# Altium schematic symbol library Schlib1.SchLib: 41 symbols (part 1 of 2)
Pins are listed as number, name and electrical type; pins without a type are passive.

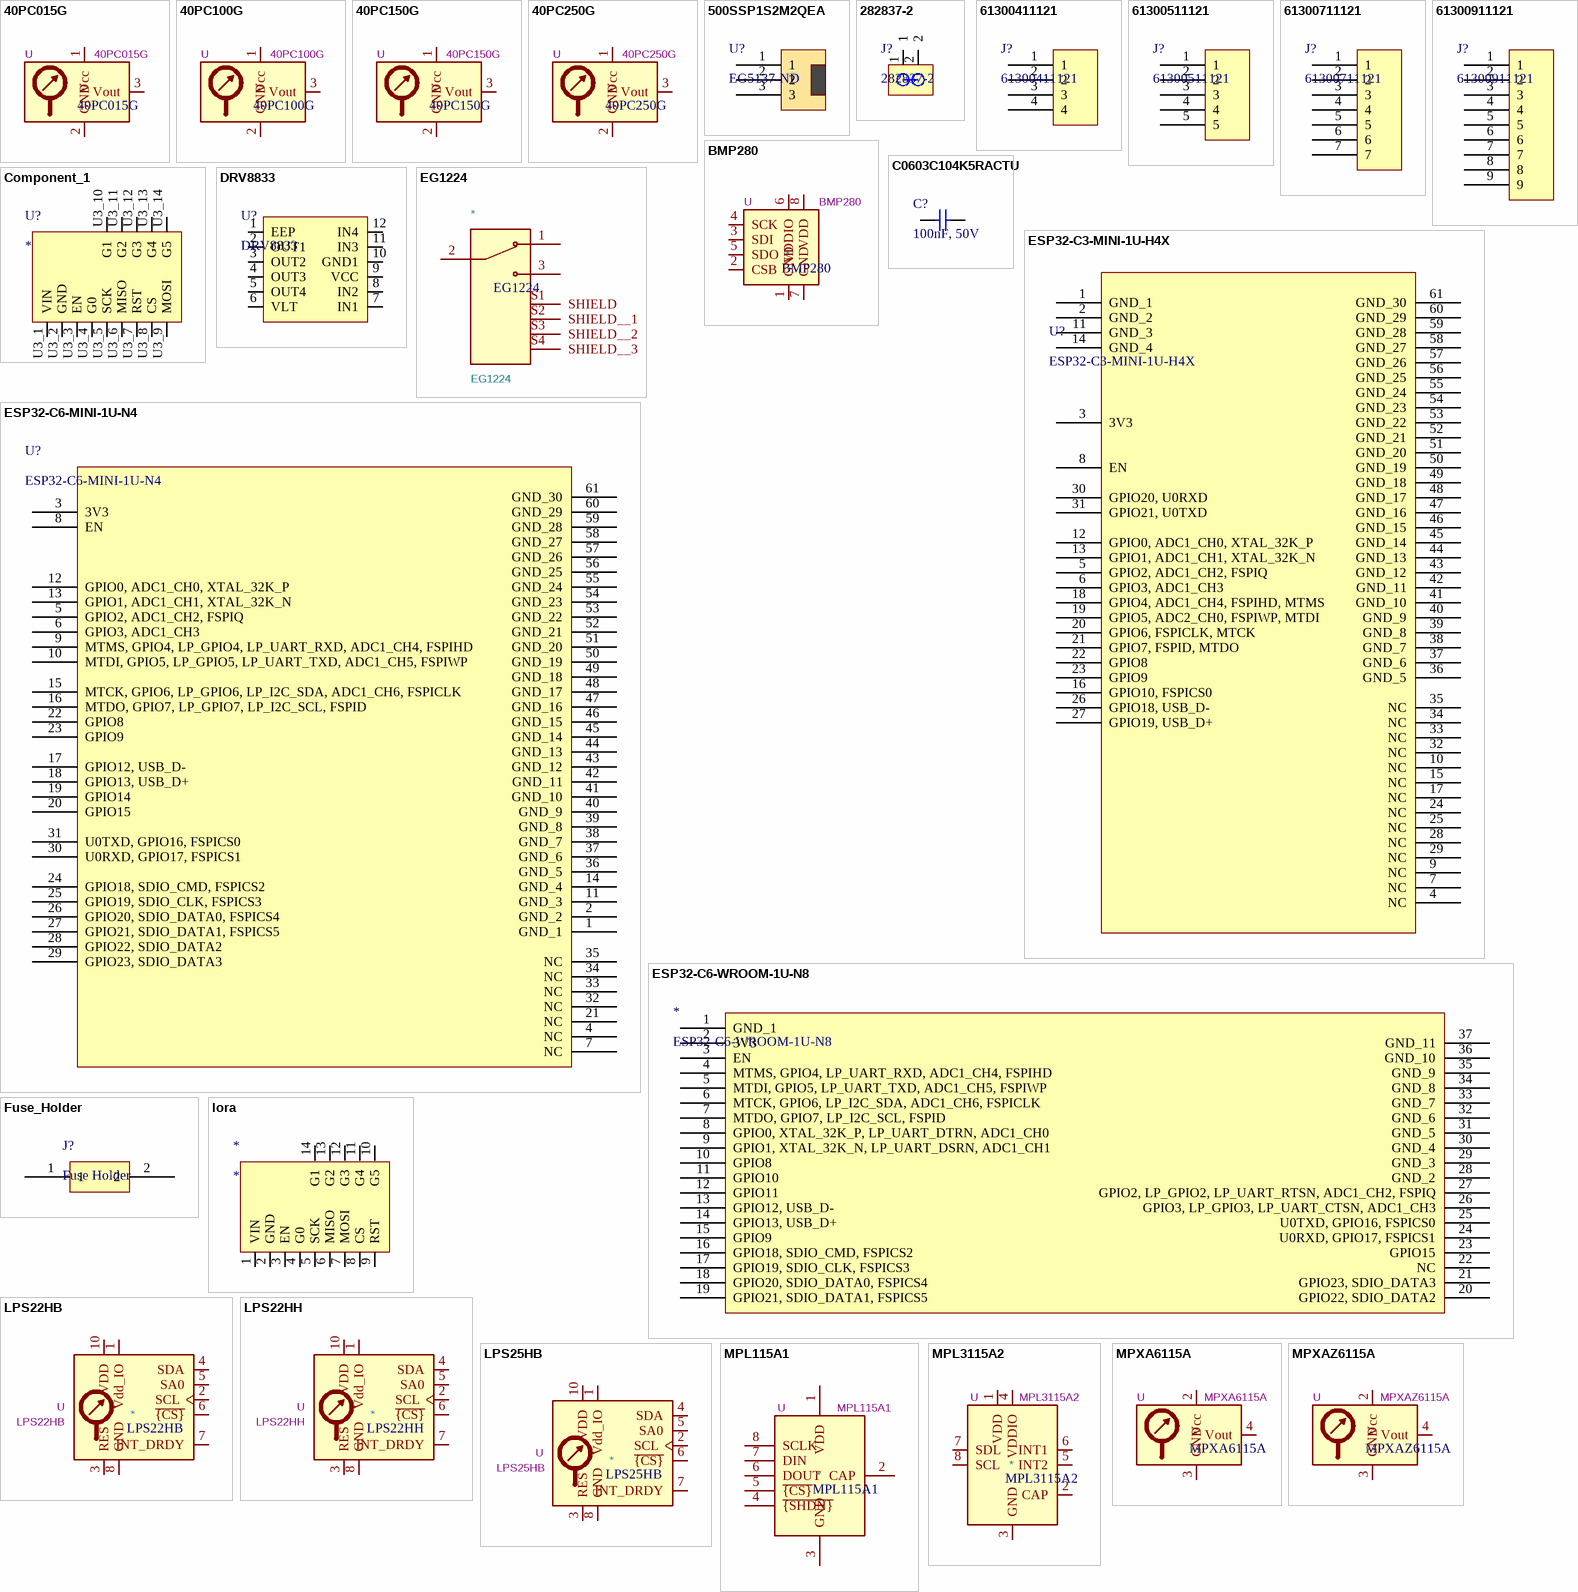
[diagram p0: symbols 40PC015G to MPXAZ6115A]

## 40PC015G
designator *  Reference: U
Gauge pressure sensor, 0 to 15PSI, 5V supply, 0.2% accuracy, integrated signal conditioning, excellent media compatibility; ki_keywords: gage gauge pressure sensor; Datasheet: http://www.honeywellscportal.com//index.php?ci_id=138832; Description_: Gauge pressure sensor, 0 to 15PSI, 5V supply, 0.2% accuracy, integrated signal conditioning, excellent media compatibility; Value: 40PC015G
pins: 1 Vcc, 2 GND, 3 Vout, 4 NC hidden, 5 NC hidden, 6 NC hidden

## 40PC100G
designator *  Reference: U
Gauge pressure sensor, 0 to 100PSI, 5V supply, 0.2% accuracy, integrated signal conditioning, excellent media compatibility; ki_keywords: gage gauge pressure sensor; Datasheet: http://www.honeywellscportal.com//index.php?ci_id=138832; Description_: Gauge pressure sensor, 0 to 100PSI, 5V supply, 0.2% accuracy, integrated signal conditioning, excellent media compatibility; Value: 40PC100G
pins: 1 Vcc, 2 GND, 3 Vout, 4 NC hidden, 5 NC hidden, 6 NC hidden

## 40PC150G
designator *  Reference: U
Gauge pressure sensor, 0 to 150PSI, 5V supply, 0.2% accuracy, integrated signal conditioning, excellent media compatibility; ki_keywords: gage gauge pressure sensor; Datasheet: http://www.honeywellscportal.com//index.php?ci_id=138832; Description_: Gauge pressure sensor, 0 to 150PSI, 5V supply, 0.2% accuracy, integrated signal conditioning, excellent media compatibility; Value: 40PC150G
pins: 1 Vcc, 2 GND, 3 Vout, 4 NC hidden, 5 NC hidden, 6 NC hidden

## 40PC250G
designator *  Reference: U
Gauge pressure sensor, 0 to 250PSI, 5V supply, 0.2% accuracy, integrated signal conditioning, excellent media compatibility; ki_keywords: gage gauge pressure sensor; Datasheet: http://www.honeywellscportal.com//index.php?ci_id=138832; Description_: Gauge pressure sensor, 0 to 250PSI, 5V supply, 0.2% accuracy, integrated signal conditioning, excellent media compatibility; Value: 40PC250G
pins: 1 Vcc, 2 GND, 3 Vout, 4 NC hidden, 5 NC hidden, 6 NC hidden

## 500SSP1S2M2QEA
designator U?, comment EG5137-ND
Switch Slide ON None ON SPDT Extended Top Slide 5A 250VAC 28VDC PC Pins Thru-Hole; Manufacturer: E-Switch; Manufacturer Part Number: 500SSP1S2M2QEA; Actuator Length: 7.239mm; Actuator Material: Nylon; Contact Current Rating: 2A; Contact Resistance: 10mΩ; Contact Voltage Rating (AC): 250V; Electrical Life: 30kcycles; Insulation Resistance: 1GΩ; Max Voltage Rating (DC): 28V; Number of Positions: 1; Sealable: EPOXY; Switch Function: On-On; Switch Travel: 2.16mm; Voltage Rating (AC): 120V; Supplier: DigiKey; Supplier Part Number: EG5137-ND; RoHS: Compliant; Category: Slide Switches; Stock: 7980; Pricing: 1=3.29, 10=2.758, 25=2.556, 126=2.23468, 252=2.11369, 504=2.00373, 1008=1.90486, 2520=1.79075, 5040=1.71628 (USD); Contact Material: Copper; Contact Plating: Silver; Current Rating: 5A; Export Control Classification Number (ECCN) Code: EAR99; Housing Material: Stainless Steel; Harmonized Tariff Schedule (HTS) Code: 8536.50.70.00; Introduction Date: 2000-02-16; Length: 12.8524mm; Lifecycle Status: Production; Max Current Rating: 5A; Max Operating Temperature: 85°C; Mechanical Life: 30kcycles; Min Operating Temperature: -30°C; Mounting Technology: Through Hole; Orientation: Vertical; REACH SVHC: Yes; Termination: PC Pin; Throw Configuration: SPDT; Voltage Rating (DC): 28V; ComponentLink1URL: https://datasheet.octopart.com:443/500SSP1S2M2QEA-E-Switch-datasheet-41192586.pdf?src-supplier=element14+APAC; ComponentLink1Description: https://datasheet.octopart.com:443/500SSP1S2M2QEA-E-Switch-datasheet-41192586.pdf?src-supplier=element14+APAC; ComponentLink2URL: https://datasheet.octopart.com:443/500SSP1S2M2QEA-E-Switch-datasheet-156105959.pdf?src-supplier=Future+Electronics; ComponentLink2Description: https://datasheet.octopart.com:443/500SSP1S2M2QEA-E-Switch-datasheet-156105959.pdf?src-supplier=Future+Electronics; ComponentLink3URL: https://datasheet.octopart.com:443/500SSP1S2M2QEA-E-Switch-datasheet-169364037.pdf?src-supplier=New+Yorker+Electronics; ComponentLink3Description: https://datasheet.octopart.com:443/500SSP1S2M2QEA-E-Switch-datasheet-169364037.pdf?src-supplier=New+Yorker+Electronics; ComponentLink4URL: https://datasheet.octopart.com:443/500SSP1S2M2QEA-E-Switch-datasheet-33408909.pdf?src-supplier=Electro+Sonic; ComponentLink4Description: https://datasheet.octopart.com:443/500SSP1S2M2QEA-E-Switch-datasheet-33408909.pdf?src-supplier=Electro+Sonic
pins: 1, 2, 3

## 282837-2
designator J?
Connector, Terminal Block; Wire Receptacle; 2 Pos.; 16-30 AWG; 0.2 in. CL; Side;; Manufacturer: TE Connectivity; Manufacturer Lifecycle Status: ACTIVE; Approvals: UL; Connector System: Wire-to-Board; Current: 13.5A; Gender: Female; Max Supply Voltage (AC): 250V; Number of Circuits: 2; Number of Levels: 1; Operating Supply Voltage: 300V; Pitch: 5.08mm; Plating: Brass; Tail Length: 3.5mm; Thread Size: M3; Wire/Cable Gauge: 15AWG; Wire Gauge (Max): 28AWG; Wire Gauge (Min): 16AWG; Supplier: Avnet; Supplier Part Number: 12H8403; Manufacturer Part Number: 282837-2; RoHS: Compliant; Category: Terminal Blocks; Stock: 4454; Pricing: 1=0.678, 10=0.635, 25=0.616, 50=0.598, 100=0.5, 500=0.458 (USD); China RoHS: Non-Compliant; Color: Green; Connector Type: Receptacle; Contact Material: Brass; Contact Plating: Tin; Current Rating: 13.5A; Depth: 8.2mm; Export Control Classification Number (ECCN) Code: EAR99; ELV: Compliant; Flammability Rating: UL94 V-0; Height: 10.3mm; Housing Color: Green; Housing Material: Polyamide; Harmonized Tariff Schedule (HTS) Code: 8536.90.40.00; Introduction Date: 1997-11-01; Lead Free: Lead Free; Lifecycle Status: Production; Max Current Rating: 13.5A; Max Operating Temperature: 110°C; Max Voltage Rating (AC): 250V; Min Operating Temperature: -40°C; Mounting Technology: Screw; Number of Contacts: 2; Pins: 2; Number of Poles: 2; Number of Positions: 2; Number of Positions Per Level: 2; Number of Rows: 1; Orientation: Straight; Packaging: Bulk; Radiation Hardening: No; REACH SVHC: No; Termination: Solder; Voltage: 300V; Voltage Rating: 300V; Voltage Rating (AC): 250V; Width: 11.5mm; ComponentLink1URL: https://datasheet.octopart.com:443/282837-2-TE-Connectivity-datasheet-11084709.pdf?src-supplier=Electro+Sonic; ComponentLink1Description: https://datasheet.octopart.com:443/282837-2-TE-Connectivity-datasheet-11084709.pdf?src-supplier=Electro+Sonic; ComponentLink2URL: https://datasheet.octopart.com:443/282837-2-TE-Connectivity-datasheet-192982046.pdf?src-supplier=TE+Connectivity; ComponentLink2Description: https://datasheet.octopart.com:443/282837-2-TE-Connectivity-datasheet-192982046.pdf?src-supplier=TE+Connectivity; ComponentLink3URL: https://sigma.octopart.com:443/14765542/technical_drawing/TE-Connectivity-282837-2.pdf?src-supplier=TE+Connectivity; ComponentLink3Description: https://sigma.octopart.com:443/14765542/technical_drawing/TE-Connectivity-282837-2.pdf?src-supplier=TE+Connectivity; ComponentLink4URL: https://datasheet.octopart.com:443/282837-2-Agastat-datasheet-13560836.pdf?src-supplier=TE+Connectivity; ComponentLink4Description: https://datasheet.octopart.com:443/282837-2-Agastat-datasheet-13560836.pdf?src-supplier=TE+Connectivity; ComponentLink5URL: https://sigma.octopart.com:443/136669779/technical_drawing/TE-Connectivity-282837-2.pdf?src-supplier=Sager+Electronics; ComponentLink5Description: https://sigma.octopart.com:443/136669779/technical_drawing/TE-Connectivity-282837-2.pdf?src-supplier=Sager+Electronics; ComponentLink6URL: https://datasheet.octopart.com:443/282837-2-TE-Connectivity-datasheet-12103319.pdf?src-supplier=element14+APAC; ComponentLink6Description: https://datasheet.octopart.com:443/282837-2-TE-Connectivity-datasheet-12103319.pdf?src-supplier=element14+APAC; ComponentLink7URL: https://datasheet.octopart.com:443/282837-2-TE-Connectivity-datasheet-180047323.pdf?src-supplier=IHS; ComponentLink7Description: https://datasheet.octopart.com:443/282837-2-TE-Connectivity-datasheet-180047323.pdf?src-supplier=IHS; ComponentLink8URL: https://datasheet.octopart.com:443/282837-2-TE-Connectivity---AMP-datasheet-181444653.pdf?src-supplier=IHS; ComponentLink8Description: https://datasheet.octopart.com:443/282837-2-TE-Connectivity---AMP-datasheet-181444653.pdf?src-supplier=IHS; ComponentLink9URL: https://datasheet.octopart.com:443/282837-2-TE-Connectivity-datasheet-164883459.pdf?src-supplier=Burklin+Elektronik; ComponentLink9Description: https://datasheet.octopart.com:443/282837-2-TE-Connectivity-datasheet-164883459.pdf?src-supplier=Burklin+Elektronik; ComponentLink10URL: https://datasheet.octopart.com:443/282837-2-TE-Connectivity-datasheet-20824500.pdf?src-supplier=RS+(Formerly+Allied+Electronics); ComponentLink10Description: https://datasheet.octopart.com:443/282837-2-TE-Connectivity-datasheet-20824500.pdf?src-supplier=RS+(Formerly+Allied+Electronics); ComponentLink11URL: https://datasheet.octopart.com:443/282837-2-Tyco-Electronics-datasheet-9638290.pdf?src-supplier=RS+(Formerly+Allied+Electronics); ComponentLink11Description: https://datasheet.octopart.com:443/282837-2-Tyco-Electronics-datasheet-9638290.pdf?src-supplier=RS+(Formerly+Allied+Electronics); ComponentLink12URL: https://datasheet.octopart.com:443/282837-2-Tyco-Electronics-datasheet-60025.pdf?src-supplier=RS+(Formerly+Allied+Electronics); ComponentLink12Description: https://datasheet.octopart.com:443/282837-2-Tyco-Electronics-datasheet-60025.pdf?src-supplier=RS+(Formerly+Allied+Electronics); ComponentLink13URL: https://datasheet.octopart.com:443/282837-2-TE-Connectivity---AMP-datasheet-189108469.pdf?src-supplier=Master+Electronics; ComponentLink13Description: https://datasheet.octopart.com:443/282837-2-TE-Connectivity---AMP-datasheet-189108469.pdf?src-supplier=Master+Electronics; ComponentLink14URL: https://datasheet.octopart.com:443/282837-2-TE-Connectivity-datasheet-7829509.pdf?src-supplier=Jameco; ComponentLink14Description: https://datasheet.octopart.com:443/282837-2-TE-Connectivity-datasheet-7829509.pdf?src-supplier=Jameco; ComponentLink15URL: http://sigma.octopart.com:80/38876000/materials_sheet/TE-Connectivity-282837-2.pdf?src-supplier=Compliance+Statements; ComponentLink15Description: http://sigma.octopart.com:80/38876000/materials_sheet/TE-Connectivity-282837-2.pdf?src-supplier=Compliance+Statements; ComponentLink16URL: http://sigma.octopart.com:80/117256993/reach_statement/TE-Connectivity-282837-2.pdf?src-supplier=Compliance+Statements; ComponentLink16Description: http://sigma.octopart.com:80/117256993/reach_statement/TE-Connectivity-282837-2.pdf?src-supplier=Compliance+Statements; ComponentLink17URL: http://sigma.octopart.com:80/136730121/materials_sheet/TE-Connectivity-282837-2.pdf?src-supplier=Compliance+Statements; ComponentLink17Description: http://sigma.octopart.com:80/136730121/materials_sheet/TE-Connectivity-282837-2.pdf?src-supplier=Compliance+Statements; ComponentLink18URL: http://sigma.octopart.com:80/14765540/rohs_certificate/Agastat-282837-2.pdf?src-supplier=Compliance+Statements; ComponentLink18Description: http://sigma.octopart.com:80/14765540/rohs_certificate/Agastat-282837-2.pdf?src-supplier=Compliance+Statements
pins: 1, 2

## 61300411121
designator J?
WR-PHD Straight Male, PCB Header, Through Hole, 1 Rows, 4 Contacts, 2.54mm Pitch; Manufacturer: Wurth Elektronik; Manufacturer Part Number: 61300511121; Connector Type: Male Pin; Contact Resistance: 20mΩ; Current Rating: 3A; Insulation Resistance: 1GΩ; Number of Contacts: 5; Operating Supply Voltage: 250V; Supplier: Newark; Supplier Part Number: 61300511121; RoHS: Compliant; Category: Headers and Wire Housings; Stock: 95; Pricing: 1=0.268, 10=0.229, 25=0.191, 50=0.16, 100=0.145, 500=0.139, 1000=0.132 (USD); Color: Black; Contact Material: Gold; Contact Mating Length: 5.9944mm; Contact Plating: Gold; Gender: Male; Height: 8.89mm; Lead Free: Lead Free; Lead Pitch: 2.54mm; Length: 12.7mm; Max Operating Temperature: 105°C; Min Operating Temperature: -40°C; Mounting Technology: Through Hole; Pins: 5; Number of Positions: 5; Number of Rows: 1; Orientation: Vertical; Packaging: Bulk; Pitch: 2.54mm; Termination: Solder; Voltage Rating: 250V; ComponentLink1URL: https://datasheet.octopart.com:443/61300511121-W%C3%BCrth-Elektronik-datasheet-44382959.pdf?src-supplier=Future+Electronics; ComponentLink1Description: https://datasheet.octopart.com:443/61300511121-W%C3%BCrth-Elektronik-datasheet-44382959.pdf?src-supplier=Future+Electronics; ComponentLink2URL: https://datasheet.octopart.com:443/61300511121-Wurth-Elektronik-datasheet-190366221.pdf?src-supplier=Wurth+Elektronik; ComponentLink2Description: https://datasheet.octopart.com:443/61300511121-Wurth-Elektronik-datasheet-190366221.pdf?src-supplier=Wurth+Elektronik; ComponentLink3URL: https://datasheet.octopart.com:443/61300511121-W%C3%BCrth-Elektronik-datasheet-149524068.pdf?src-supplier=Farnell; ComponentLink3Description: https://datasheet.octopart.com:443/61300511121-W%C3%BCrth-Elektronik-datasheet-149524068.pdf?src-supplier=Farnell; ComponentLink4URL: https://datasheet.octopart.com:443/61300511121-W%C3%BCrth-Elektronik-datasheet-21154836.pdf?src-supplier=element14+APAC; ComponentLink4Description: https://datasheet.octopart.com:443/61300511121-W%C3%BCrth-Elektronik-datasheet-21154836.pdf?src-supplier=element14+APAC
pins: 1, 2, 3, 4

## 61300511121
designator J?
WR-PHD Straight Male, PCB Header, Through Hole, 1 Rows, 5 Contacts, 2.54mm Pitch; Manufacturer: Wurth Elektronik; Connector Type: Male Pin; Contact Resistance: 20mΩ; Current Rating: 3A; Insulation Resistance: 1GΩ; Number of Contacts: 5; Operating Supply Voltage: 250V; Supplier: Newark; Supplier Part Number: 61300511121; Manufacturer Part Number: 61300511121; RoHS: Compliant; Category: Headers and Wire Housings; Stock: 95; Pricing: 1=0.268, 10=0.229, 25=0.191, 50=0.16, 100=0.145, 500=0.139, 1000=0.132 (USD); Color: Black; Contact Material: Gold; Contact Mating Length: 5.9944mm; Contact Plating: Gold; Gender: Male; Height: 8.89mm; Lead Free: Lead Free; Lead Pitch: 2.54mm; Length: 12.7mm; Max Operating Temperature: 105°C; Min Operating Temperature: -40°C; Mounting Technology: Through Hole; Pins: 5; Number of Positions: 5; Number of Rows: 1; Orientation: Vertical; Packaging: Bulk; Pitch: 2.54mm; Termination: Solder; Voltage Rating: 250V; ComponentLink1URL: https://datasheet.octopart.com:443/61300511121-W%C3%BCrth-Elektronik-datasheet-44382959.pdf?src-supplier=Future+Electronics; ComponentLink1Description: https://datasheet.octopart.com:443/61300511121-W%C3%BCrth-Elektronik-datasheet-44382959.pdf?src-supplier=Future+Electronics; ComponentLink2URL: https://datasheet.octopart.com:443/61300511121-Wurth-Elektronik-datasheet-190366221.pdf?src-supplier=Wurth+Elektronik; ComponentLink2Description: https://datasheet.octopart.com:443/61300511121-Wurth-Elektronik-datasheet-190366221.pdf?src-supplier=Wurth+Elektronik; ComponentLink3URL: https://datasheet.octopart.com:443/61300511121-W%C3%BCrth-Elektronik-datasheet-149524068.pdf?src-supplier=Farnell; ComponentLink3Description: https://datasheet.octopart.com:443/61300511121-W%C3%BCrth-Elektronik-datasheet-149524068.pdf?src-supplier=Farnell; ComponentLink4URL: https://datasheet.octopart.com:443/61300511121-W%C3%BCrth-Elektronik-datasheet-21154836.pdf?src-supplier=element14+APAC; ComponentLink4Description: https://datasheet.octopart.com:443/61300511121-W%C3%BCrth-Elektronik-datasheet-21154836.pdf?src-supplier=element14+APAC
pins: 1, 2, 3, 4, 5

## 61300711121
designator J?
THT Vertical Pin Header WR-PHD, Pitch 2.54 mm, Single Row, 7 pins; Manufacturer: Wurth Elektronik; Connector Type: Male Pin; Contact Resistance: 20mΩ; Current Rating: 3A; Gender: Male; Insulation Resistance: 1GΩ; Number of Contacts: 7; Operating Supply Voltage: 250V; Pitch: 2.54mm; Supplier: DigiKey; Supplier Part Number: 732-5320-ND; Manufacturer Part Number: 61300711121; RoHS: Compliant; Category: Headers and Wire Housings; Stock: 6561; Pricing: 1=0.36, 10=0.309, 25=0.2576, 50=0.2152, 100=0.195, 1000=0.17756 (USD); Color: Black; Contact Material: Copper; Contact Mating Length: 5.9944mm; Contact Plating: Gold; Lead Pitch: 2.54mm; Length: 17.78mm; Max Operating Temperature: 105°C; Min Operating Temperature: -40°C; Mounting Technology: Through Hole; Pins: 7; Number of Positions: 7; Number of Rows: 1; Orientation: Vertical; Packaging: Bulk; Termination: Solder; ComponentLink1URL: https://datasheet.octopart.com:443/61300711121-Wurth-Elektronik-datasheet-169474601.pdf?src-supplier=Wurth+Elektronik; ComponentLink1Description: https://datasheet.octopart.com:443/61300711121-Wurth-Elektronik-datasheet-169474601.pdf?src-supplier=Wurth+Elektronik; ComponentLink2URL: https://datasheet.octopart.com:443/61300711121-W%C3%BCrth-Elektronik-datasheet-44382959.pdf?src-supplier=Wurth+Elektronik; ComponentLink2Description: https://datasheet.octopart.com:443/61300711121-W%C3%BCrth-Elektronik-datasheet-44382959.pdf?src-supplier=Wurth+Elektronik; ComponentLink3URL: https://datasheet.octopart.com:443/61300711121-W%C3%BCrth-Elektronik-datasheet-149524083.pdf?src-supplier=Farnell; ComponentLink3Description: https://datasheet.octopart.com:443/61300711121-W%C3%BCrth-Elektronik-datasheet-149524083.pdf?src-supplier=Farnell; ComponentLink4URL: https://datasheet.octopart.com:443/61300711121-W%C3%BCrth-Elektronik-datasheet-21154836.pdf?src-supplier=element14+APAC; ComponentLink4Description: https://datasheet.octopart.com:443/61300711121-W%C3%BCrth-Elektronik-datasheet-21154836.pdf?src-supplier=element14+APAC
pins: 1, 2, 3, 4, 5, 6, 7

## 61300911121
designator J?
Wr-phd; Series 6130, 2.54MM Pitch 9 Way 1 Row Straight Pin Header, Surface Mount; Manufacturer: Wurth Elektronik; Connector Type: Male Pin; Contact Resistance: 20mΩ; Current Rating: 3A; Gender: Male; Insulation Resistance: 1GΩ; Number of Contacts: 9; Operating Supply Voltage: 250V; Supplier: Newark; Supplier Part Number: 61300911121; Manufacturer Part Number: 61300911121; RoHS: Compliant; Category: Headers and Wire Housings; Stock: 18; Pricing: 1=0.061, 10=0.061, 25=0.061, 50=0.061, 100=0.061, 500=0.061, 1000=0.061 (USD); Color: Black; Contact Material: Copper; Contact Mating Length: 5.9944mm; Contact Plating: Gold; Lead Pitch: 2.54mm; Length: 22.86mm; Max Operating Temperature: 105°C; Min Operating Temperature: -40°C; Mounting Technology: Through Hole; Pins: 9; Number of Positions: 9; Number of Rows: 1; Orientation: Vertical; Packaging: Bulk; Pitch: 2.54mm; Termination: Solder; ComponentLink1URL: https://datasheet.octopart.com:443/61300911121-Wurth-Elektronik-datasheet-190366232.pdf?src-supplier=Wurth+Elektronik; ComponentLink1Description: https://datasheet.octopart.com:443/61300911121-Wurth-Elektronik-datasheet-190366232.pdf?src-supplier=Wurth+Elektronik; ComponentLink2URL: https://datasheet.octopart.com:443/61300911121-W%C3%BCrth-Elektronik-datasheet-44382959.pdf?src-supplier=Wurth+Elektronik; ComponentLink2Description: https://datasheet.octopart.com:443/61300911121-W%C3%BCrth-Elektronik-datasheet-44382959.pdf?src-supplier=Wurth+Elektronik; ComponentLink3URL: https://datasheet.octopart.com:443/61300911121-W%C3%BCrth-Elektronik-datasheet-149524094.pdf?src-supplier=Farnell; ComponentLink3Description: https://datasheet.octopart.com:443/61300911121-W%C3%BCrth-Elektronik-datasheet-149524094.pdf?src-supplier=Farnell; ComponentLink4URL: https://datasheet.octopart.com:443/61300911121-Wurth-Elektronik-datasheet-181533293.pdf?src-supplier=Farnell; ComponentLink4Description: https://datasheet.octopart.com:443/61300911121-Wurth-Elektronik-datasheet-181533293.pdf?src-supplier=Farnell; ComponentLink5URL: https://datasheet.octopart.com:443/61300911121-W%C3%BCrth-Elektronik-datasheet-21154836.pdf?src-supplier=element14+APAC; ComponentLink5Description: https://datasheet.octopart.com:443/61300911121-W%C3%BCrth-Elektronik-datasheet-21154836.pdf?src-supplier=element14+APAC
pins: 1, 2, 3, 4, 5, 6, 7, 8, 9

## BMP280
designator *  Reference: U
Absolute Barometric Pressure Sensor, LGA-8; ki_keywords: I2C, SPI, pressure, temperature, sensor; ki_fp_filters: Bosch*LGA*2x2.5mm*P0.65mm*; Footprint: Package_LGA:Bosch_LGA-8_2x2.5mm_P0.65mm_ClockwisePinNumbering; Datasheet: https://ae-bst.resource.bosch.com/media/_tech/media/datasheets/BST-BMP280-DS001.pdf; Description_: Absolute Barometric Pressure Sensor, LGA-8; Value: BMP280
pins: 1 GND, 2 CSB, 3 SDI, 4 SCK, 5 SDO, 6 VDDIO, 7 GND, 8 VDD

## C0603C104K5RACTU
designator C?, comment 100nF, 50V
50V 100nF X7R ±10% 0603 Multilayer Ceramic Capacitors MLCC - SMD/SMT ROHS; Manufacturer: KEMET; Manufacturer Part Number: C0603C104K5RACTU; Dissipation Factor: 2.5%; Temperature Coefficient: 30ppm/°C; Supplier: Avnet; Supplier Part Number: C0603C104K5RACTU; RoHS: Compliant; Category: Ceramic Capacitors; Stock: 849495; Pricing: 4000=0.00986, 8000=0.00945, 16000=0.00917, 32000=0.00889, 64000=0.00864 (USD); Value: 100nF; Case/Package: 0603; Case Code (Imperial): 0603; China RoHS: Compliant; Contact Plating: Tin; Country of Origin: Mexico; Depth: 800µm; Dielectric: X7R; Dielectric Material: Ceramic; Export Control Classification Number (ECCN) Code: EAR99; Height: 800µm; Harmonized Tariff Schedule (HTS) Code: 8532.24.00.20; Introduction Date: 2011-07-27; Lead Free: Lead Free; Lead Pitch: 700µm; Length: 1.6mm; Lifecycle Status: Production; Material: Ceramic; Max Operating Temperature: 125°C; Min Operating Temperature: -55°C; Mounting Technology: Surface Mount; Pins: 2; Number of Terminals: 2; Packaging: Tape & Reel; Radiation Hardening: No; REACH SVHC: Yes; Schedule B: 8532240020, 8532240020|8532240020, 8532240020|8532240020|8532240020, 8532240020|8532240020|8532240020|8532240020; Termination: SMD/SMT; Thickness: 863.6µm; Tolerance: 10%; Voltage: 50V; Voltage Rating: 50V; Voltage Rating (DC): 50V; Width: 800µm; ComponentLink1URL: https://datasheet.octopart.com:443/C0603C104K5RACTU-KEMET-datasheet-178445679.pdf?src-supplier=IHS; ComponentLink1Description: https://datasheet.octopart.com:443/C0603C104K5RACTU-KEMET-datasheet-178445679.pdf?src-supplier=IHS; ComponentLink2URL: https://datasheet.octopart.com:443/C0603C104K5RAC7867-KEMET-datasheet-184792804.pdf?src-supplier=IHS; ComponentLink2Description: https://datasheet.octopart.com:443/C0603C104K5RAC7867-KEMET-datasheet-184792804.pdf?src-supplier=IHS; ComponentLink3URL: https://datasheet.octopart.com:443/C0603C104K5RACTU-KEMET-datasheet-137357759.pdf?src-supplier=Farnell; ComponentLink3Description: https://datasheet.octopart.com:443/C0603C104K5RACTU-KEMET-datasheet-137357759.pdf?src-supplier=Farnell; ComponentLink4URL: https://datasheet.octopart.com:443/C0603C104K5RACTU-KEMET-datasheet-149521864.pdf?src-supplier=Farnell; ComponentLink4Description: https://datasheet.octopart.com:443/C0603C104K5RACTU-KEMET-datasheet-149521864.pdf?src-supplier=Farnell; ComponentLink5URL: https://datasheet.octopart.com:443/C0603C104K5RACTU-KEMET-datasheet-101575654.pdf?src-supplier=Farnell; ComponentLink5Description: https://datasheet.octopart.com:443/C0603C104K5RACTU-KEMET-datasheet-101575654.pdf?src-supplier=Farnell; ComponentLink6URL: https://datasheet.octopart.com:443/C0603C104K5RACTU-KEMET-datasheet-176142159.pdf?src-supplier=Farnell; ComponentLink6Description: https://datasheet.octopart.com:443/C0603C104K5RACTU-KEMET-datasheet-176142159.pdf?src-supplier=Farnell; ComponentLink7URL: https://datasheet.octopart.com:443/C0603C104K5RAC-TU-Kemet-datasheet-7833651.pdf?src-supplier=Farnell; ComponentLink7Description: https://datasheet.octopart.com:443/C0603C104K5RAC-TU-Kemet-datasheet-7833651.pdf?src-supplier=Farnell; ComponentLink8URL: https://datasheet.octopart.com:443/C0603C104K5RAC-TU-Kemet-datasheet-7601896.pdf?src-supplier=Farnell; ComponentLink8Description: https://datasheet.octopart.com:443/C0603C104K5RAC-TU-Kemet-datasheet-7601896.pdf?src-supplier=Farnell; ComponentLink9URL: https://datasheet.octopart.com:443/C0603C104K5RAC-TU-Kemet-datasheet-5316294.pdf?src-supplier=Farnell; ComponentLink9Description: https://datasheet.octopart.com:443/C0603C104K5RAC-TU-Kemet-datasheet-5316294.pdf?src-supplier=Farnell; ComponentLink10URL: https://datasheet.octopart.com:443/C0603C104K5RAC-TU-Kemet-datasheet-5314837.pdf?src-supplier=Farnell; ComponentLink10Description: https://datasheet.octopart.com:443/C0603C104K5RAC-TU-Kemet-datasheet-5314837.pdf?src-supplier=Farnell; ComponentLink11URL: https://datasheet.octopart.com:443/C0603C104K5RAC-TU-Kemet-datasheet-8092359.pdf?src-supplier=Farnell; ComponentLink11Description: https://datasheet.octopart.com:443/C0603C104K5RAC-TU-Kemet-datasheet-8092359.pdf?src-supplier=Farnell; ComponentLink12URL: https://datasheet.octopart.com:443/C0603C104K5RAC-TU-Kemet-datasheet-5314449.pdf?src-supplier=Farnell; ComponentLink12Description: https://datasheet.octopart.com:443/C0603C104K5RAC-TU-Kemet-datasheet-5314449.pdf?src-supplier=Farnell; ComponentLink13URL: https://datasheet.octopart.com:443/C0603C104K5RAC-TU-Kemet-datasheet-5314969.pdf?src-supplier=Farnell; ComponentLink13Description: https://datasheet.octopart.com:443/C0603C104K5RAC-TU-Kemet-datasheet-5314969.pdf?src-supplier=Farnell; ComponentLink14URL: https://datasheet.octopart.com:443/C0603C104K5RAC-TU-Kemet-datasheet-5314627.pdf?src-supplier=Farnell; ComponentLink14Description: https://datasheet.octopart.com:443/C0603C104K5RAC-TU-Kemet-datasheet-5314627.pdf?src-supplier=Farnell; ComponentLink15URL: https://datasheet.octopart.com:443/C0603C104K5RAC-TU-Kemet-datasheet-5389132.pdf?src-supplier=Farnell; ComponentLink15Description: https://datasheet.octopart.com:443/C0603C104K5RAC-TU-Kemet-datasheet-5389132.pdf?src-supplier=Farnell; ComponentLink16URL: https://datasheet.octopart.com:443/C0603C104K5RAC-TU-Kemet-datasheet-5313836.pdf?src-supplier=Farnell; ComponentLink16Description: https://datasheet.octopart.com:443/C0603C104K5RAC-TU-Kemet-datasheet-5313836.pdf?src-supplier=Farnell; ComponentLink17URL: https://datasheet.octopart.com:443/C0603C104K5RAC-TU-Kemet-datasheet-8111010.pdf?src-supplier=Farnell; ComponentLink17Description: https://datasheet.octopart.com:443/C0603C104K5RAC-TU-Kemet-datasheet-8111010.pdf?src-supplier=Farnell; ComponentLink18URL: https://datasheet.octopart.com:443/C0603C104K5RAC-TU-Kemet-datasheet-7627733.pdf?src-supplier=Farnell; ComponentLink18Description: https://datasheet.octopart.com:443/C0603C104K5RAC-TU-Kemet-datasheet-7627733.pdf?src-supplier=Farnell; ComponentLink19URL: https://datasheet.octopart.com:443/C0603C104K5RAC-TU-Kemet-datasheet-5315946.pdf?src-supplier=Farnell; ComponentLink19Description: https://datasheet.octopart.com:443/C0603C104K5RAC-TU-Kemet-datasheet-5315946.pdf?src-supplier=Farnell; ComponentLink20URL: https://datasheet.octopart.com:443/C0603C104K5RACTU-KEMET-datasheet-137357764.pdf?src-supplier=Upverter; ComponentLink20Description: https://datasheet.octopart.com:443/C0603C104K5RACTU-KEMET-datasheet-137357764.pdf?src-supplier=Upverter; ComponentLink21URL: https://datasheet.octopart.com:443/C0603C104K5RAC-TU-Kemet-datasheet-5313890.pdf?src-supplier=Newark; ComponentLink21Description: https://datasheet.octopart.com:443/C0603C104K5RAC-TU-Kemet-datasheet-5313890.pdf?src-supplier=Newark; ComponentLink22URL: https://datasheet.octopart.com:443/C0603C104K5RACTU-Kemet-datasheet-12608295.pdf?src-supplier=Newark; ComponentLink22Description: https://datasheet.octopart.com:443/C0603C104K5RACTU-Kemet-datasheet-12608295.pdf?src-supplier=Newark; ComponentLink23URL: https://datasheet.octopart.com:443/C0603C104K5RACTU-Kemet-datasheet-11992184.pdf?src-supplier=Newark; ComponentLink23Description: https://datasheet.octopart.com:443/C0603C104K5RACTU-Kemet-datasheet-11992184.pdf?src-supplier=Newark; ComponentLink24URL: https://datasheet.octopart.com:443/C0603C104K5RACTU-Kemet-datasheet-10942409.pdf?src-supplier=Newark; ComponentLink24Description: https://datasheet.octopart.com:443/C0603C104K5RACTU-Kemet-datasheet-10942409.pdf?src-supplier=Newark; ComponentLink25URL: https://datasheet.octopart.com:443/C0603C104K5RACTU-Kemet-datasheet-10404442.pdf?src-supplier=Newark; ComponentLink25Description: https://datasheet.octopart.com:443/C0603C104K5RACTU-Kemet-datasheet-10404442.pdf?src-supplier=Newark; ComponentLink26URL: https://datasheet.octopart.com:443/C0603C104K5RAC-TU-Kemet-datasheet-5390537.pdf?src-supplier=Newark; ComponentLink26Description: https://datasheet.octopart.com:443/C0603C104K5RAC-TU-Kemet-datasheet-5390537.pdf?src-supplier=Newark; ComponentLink27URL: https://datasheet.octopart.com:443/C0603C104K5RAC-TU-Kemet-datasheet-7541751.pdf?src-supplier=Newark; ComponentLink27Description: https://datasheet.octopart.com:443/C0603C104K5RAC-TU-Kemet-datasheet-7541751.pdf?src-supplier=Newark; ComponentLink28URL: https://datasheet.octopart.com:443/C0603C104K5RACTU-KEMET-datasheet-171829795.pdf?src-supplier=Newark; ComponentLink28Description: https://datasheet.octopart.com:443/C0603C104K5RACTU-KEMET-datasheet-171829795.pdf?src-supplier=Newark; ComponentLink29URL: https://datasheet.octopart.com:443/C0603C104K5RACTU-Kemet-datasheet-8764837.pdf?src-supplier=Newark; ComponentLink29Description: https://datasheet.octopart.com:443/C0603C104K5RACTU-Kemet-datasheet-8764837.pdf?src-supplier=Newark; ComponentLink30URL: https://datasheet.octopart.com:443/C0603C104K5RACTU-Kemet-datasheet-8480123.pdf?src-supplier=Newark; ComponentLink30Description: https://datasheet.octopart.com:443/C0603C104K5RACTU-Kemet-datasheet-8480123.pdf?src-supplier=Newark; ComponentLink31URL: https://datasheet.octopart.com:443/C0603C104K5RACTU-Kemet-datasheet-5393970.pdf?src-supplier=Newark; ComponentLink31Description: https://datasheet.octopart.com:443/C0603C104K5RACTU-Kemet-datasheet-5393970.pdf?src-supplier=Newark; ComponentLink32URL: https://datasheet.octopart.com:443/C0603C104K5RACTU-Kemet-datasheet-8502025.pdf?src-supplier=Newark; ComponentLink32Description: https://datasheet.octopart.com:443/C0603C104K5RACTU-Kemet-datasheet-8502025.pdf?src-supplier=Newark; ComponentLink33URL: https://datasheet.octopart.com:443/C0603C104K5RACTU-Kemet-datasheet-161801.pdf?src-supplier=Newark; ComponentLink33Description: https://datasheet.octopart.com:443/C0603C104K5RACTU-Kemet-datasheet-161801.pdf?src-supplier=Newark; ComponentLink34URL: https://datasheet.octopart.com:443/C0603C104K5RACTU-Kemet-datasheet-32036385.pdf?src-supplier=Electro+Sonic; ComponentLink34Description: https://datasheet.octopart.com:443/C0603C104K5RACTU-Kemet-datasheet-32036385.pdf?src-supplier=Electro+Sonic; ComponentLink35URL: https://datasheet.octopart.com:443/C0603C104K5RACTU-KEMET-datasheet-157246124.pdf?src-supplier=Electro+Sonic; ComponentLink35Description: https://datasheet.octopart.com:443/C0603C104K5RACTU-KEMET-datasheet-157246124.pdf?src-supplier=Electro+Sonic; ComponentLink36URL: https://datasheet.octopart.com:443/C0603C104K5RACTU-KEMET-datasheet-164512540.pdf?src-supplier=TME; ComponentLink36Description: https://datasheet.octopart.com:443/C0603C104K5RACTU-KEMET-datasheet-164512540.pdf?src-supplier=TME; ComponentLink37URL: https://datasheet.octopart.com:443/C0603C104K5RACTU-Kemet-datasheet-67830781.pdf?src-supplier=TME; ComponentLink37Description: https://datasheet.octopart.com:443/C0603C104K5RACTU-Kemet-datasheet-67830781.pdf?src-supplier=TME; ComponentLink38URL: https://datasheet.octopart.com:443/C0603C104K5RACTU-KEMET-datasheet-68331906.pdf?src-supplier=TME; ComponentLink38Description: https://datasheet.octopart.com:443/C0603C104K5RACTU-KEMET-datasheet-68331906.pdf?src-supplier=TME; ComponentLink39URL: https://datasheet.octopart.com:443/C0603C104K5RAC7867-Kemet-datasheet-62098571.pdf?src-supplier=TME; ComponentLink39Description: https://datasheet.octopart.com:443/C0603C104K5RAC7867-Kemet-datasheet-62098571.pdf?src-supplier=TME; ComponentLink40URL: https://datasheet.octopart.com:443/C0603C104K5RAC7867-Kemet-datasheet-17577222.pdf?src-supplier=TME; ComponentLink40Description: https://datasheet.octopart.com:443/C0603C104K5RAC7867-Kemet-datasheet-17577222.pdf?src-supplier=TME; ComponentLink41URL: https://datasheet.octopart.com:443/C0603C104K5RACTU-KEMET-datasheet-110724412.pdf?src-supplier=RS+(Formerly+Allied+Electronics); ComponentLink41Description: https://datasheet.octopart.com:443/C0603C104K5RACTU-KEMET-datasheet-110724412.pdf?src-supplier=RS+(Formerly+Allied+Electronics); ComponentLink42URL: https://datasheet.octopart.com:443/C0603C104K5RACTU-Kemet-datasheet-464.pdf?src-supplier=RS+(Formerly+Allied+Electronics); ComponentLink42Description: https://datasheet.octopart.com:443/C0603C104K5RACTU-Kemet-datasheet-464.pdf?src-supplier=RS+(Formerly+Allied+Electronics); ComponentLink43URL: https://datasheet.octopart.com/C0603C104K5RACTU-KEMET-datasheet-84169754.pdf; ComponentLink43Description: https://datasheet.octopart.com/C0603C104K5RACTU-KEMET-datasheet-84169754.pdf; ComponentLink44URL: https://datasheet.octopart.com:443/C0603C104K5RACTU-Kemet-datasheet-24570007.pdf?src-supplier=element14+APAC; ComponentLink44Description: https://datasheet.octopart.com:443/C0603C104K5RACTU-Kemet-datasheet-24570007.pdf?src-supplier=element14+APAC; ComponentLink45URL: https://datasheet.octopart.com:443/C0603C104K5RACTU-Kemet-datasheet-22084244.pdf?src-supplier=element14+APAC; ComponentLink45Description: https://datasheet.octopart.com:443/C0603C104K5RACTU-Kemet-datasheet-22084244.pdf?src-supplier=element14+APAC; ComponentLink46URL: https://datasheet.octopart.com:443/C0603C104K5RACTU-Kemet-datasheet-21389238.pdf?src-supplier=element14+APAC; ComponentLink46Description: https://datasheet.octopart.com:443/C0603C104K5RACTU-Kemet-datasheet-21389238.pdf?src-supplier=element14+APAC; ComponentLink47URL: https://datasheet.octopart.com:443/C0603C104K5RACTU-Kemet-datasheet-11723057.pdf?src-supplier=Arrow+Electronics; ComponentLink47Description: https://datasheet.octopart.com:443/C0603C104K5RACTU-Kemet-datasheet-11723057.pdf?src-supplier=Arrow+Electronics; ComponentLink48URL: https://datasheet.octopart.com:443/C0603C104K5RAC7867-KEMET-datasheet-164857143.pdf?src-supplier=Burklin+Elektronik; ComponentLink48Description: https://datasheet.octopart.com:443/C0603C104K5RAC7867-KEMET-datasheet-164857143.pdf?src-supplier=Burklin+Elektronik; ComponentLink49URL: https://datasheet.octopart.com:443/C0603C104K5RAC-TU-Kemet-datasheet-8187850.pdf?src-supplier=Jameco; ComponentLink49Description: https://datasheet.octopart.com:443/C0603C104K5RAC-TU-Kemet-datasheet-8187850.pdf?src-supplier=Jameco; ComponentLink50URL: https://datasheet.octopart.com:443/C0603C104K5RACTU-Kemet-datasheet-122295.pdf?src-supplier=DigiKey; ComponentLink50Description: https://datasheet.octopart.com:443/C0603C104K5RACTU-Kemet-datasheet-122295.pdf?src-supplier=DigiKey
pins: 1, 2

## Component_1
designator U?
pins: U3_1 VIN, U3_2 GND "Ground", U3_3 EN "Enable (active high)", U3_4 G0, U3_5 SCK, U3_6 MISO, U3_7 RST, U3_8 CS, U3_9 MOSI, U3_10 G1, U3_11 G2, U3_12 G3, U3_13 G4, U3_14 G5

## DRV8833
designator U?
Motor Driver 6.5V-45VDC In
pins: 1 EEP, 2 OUT1, 3 OUT2, 4 OUT3, 5 OUT4, 6 VLT, 7 IN1 "Chip Select", 8 IN2 "VIN", 9 VCC "VIN", 10 GND1 "Reset", 11 IN3 "Chip Select", 12 IN4 "Chip Select"

## EG1224
designator *
MANUFACTURER: E-Switch; Footprint: EG1224:SW_EG1224; PARTREV: A; MAXIMUM_PACKAGE_HEIGHT: 8.5 mm; STANDARD: IPC-7351B; Value: EG1224
footprint SW_EG1224
pins: 1, 2, 3, S1 SHIELD, S2 SHIELD__1, S3 SHIELD__2, S4 SHIELD__3

## ESP32-C3-MINI-1U-H4X
designator U?
SMD Module, ESP32-C3FH4X, Chip (no antenna); Manufacturer: Espressif Systems; Max Supply Voltage: 3.6V; Min Supply Voltage: 3V; Operating Supply Voltage: 3.3V; Supplier: DigiKey; Supplier Part Number: 1965-ESP32-C3-MINI-1U-H4XCT-ND; Manufacturer Part Number: ESP32-C3-MINI-1U-H4X; Category: RF Transceiver Modules and Modems; Stock: 2735; Pricing: 1=3.4, 10=2.934, 25=2.7728, 100=2.5513, 250=2.41832 (USD); Height - Seated (Max): 2.55mm; Harmonized Tariff Schedule (HTS) Code: 8542.31.00.30; Length: 13.2mm; Max Operating Temperature: 105°C; Min Operating Temperature: -40°C; Number of Terminals: 53; Terminal Pitch: 800µm; Width: 12.5mm
footprint ESP32-C3-MINI-1U_EXP
pins: 1 GND_1, 2 GND_2, 3 3V3, 4 NC, 5 GPIO2, ADC1_CH2, FSPIQ, 6 GPIO3, ADC1_CH3, 7 NC, 8 EN, 9 NC, 10 NC, 11 GND_3, 12 GPIO0, ADC1_CH0, XTAL_32K_P, 13 GPIO1, ADC1_CH1, XTAL_32K_N, 14 GND_4, 15 NC, 16 GPIO10, FSPICS0, 17 NC, 18 GPIO4, ADC1_CH4, FSPIHD, MTMS, 19 GPIO5, ADC2_CH0, FSPIWP, MTDI, 20 GPIO6, FSPICLK, MTCK, 21 GPIO7, FSPID, MTDO, 22 GPIO8, 23 GPIO9, 24 NC, 25 NC, 26 GPIO18, USB_D-, 27 GPIO19, USB_D+, 28 NC, 29 NC, 30 GPIO20, U0RXD, 31 GPIO21, U0TXD, 32 NC, 33 NC, 34 NC, 35 NC, 36 GND_5, 37 GND_6, 38 GND_7, 39 GND_8, 40 GND_9, 41 GND_10, 42 GND_11, 43 GND_12, 44 GND_13, 45 GND_14, 46 GND_15, 47 GND_16, 48 GND_17, 49 GND_18, 50 GND_19, 51 GND_20, 52 GND_21, 53 GND_22, 54 GND_23, 55 GND_24, 56 GND_25, 57 GND_26, 58 GND_27, 59 GND_28, 60 GND_29, 61 GND_30

## ESP32-C6-MINI-1U-N4
designator U?
WiFi-Module 802.11 2, 4GHz 150Mb/s; Manufacturer: Espressif Systems; Max Supply Voltage: 3.6V; Min Supply Voltage: 3V; Operating Supply Voltage: 3.3V; Supplier: DigiKey; Supplier Part Number: 1965-ESP32-C6-MINI-1U-N4CT-ND; Manufacturer Part Number: ESP32-C6-MINI-1U-N4; Category: System on Chip (SoC); Stock: 154; Pricing: 1=4.45, 10=3.845, 25=3.6364, 100=3.3486, 250=3.17616 (USD); Height - Seated (Max): 2.55mm; Harmonized Tariff Schedule (HTS) Code: 8542.31.00.30; Length: 13.2mm; Max Operating Temperature: 85°C; Min Operating Temperature: -40°C; Number of Terminals: 53; Terminal Pitch: 800µm; Width: 12.5mm; ComponentLink1URL: https://datasheet.octopart.com:443/ESP32-C6-MINI-1U-N4-Espressif-Systems-datasheet-182247771.pdf?src-supplier=TME; ComponentLink1Description: https://datasheet.octopart.com:443/ESP32-C6-MINI-1U-N4-Espressif-Systems-datasheet-182247771.pdf?src-supplier=TME; ComponentLink2URL: https://datasheet.octopart.com:443/ESP32-C6-MINI-1U-N4-Espressif-Systems-datasheet-188867343.pdf?src-supplier=TME; ComponentLink2Description: https://datasheet.octopart.com:443/ESP32-C6-MINI-1U-N4-Espressif-Systems-datasheet-188867343.pdf?src-supplier=TME
pins: 1 GND_1, 2 GND_2, 3 3V3, 4 NC, 5 GPIO2, ADC1_CH2, FSPIQ, 6 GPIO3, ADC1_CH3, 7 NC, 8 EN, 9 MTMS, GPIO4, LP_GPIO4, LP_UART_RXD, ADC1_CH4, FSPIHD, 10 MTDI, GPIO5, LP_GPIO5, LP_UART_TXD, ADC1_CH5, FSPIWP, 11 GND_3, 12 GPIO0, ADC1_CH0, XTAL_32K_P, 13 GPIO1, ADC1_CH1, XTAL_32K_N, 14 GND_4, 15 MTCK, GPIO6, LP_GPIO6, LP_I2C_SDA, ADC1_CH6, FSPICLK, 16 MTDO, GPIO7, LP_GPIO7, LP_I2C_SCL, FSPID, 17 GPIO12, USB_D-, 18 GPIO13, USB_D+, 19 GPIO14, 20 GPIO15, 21 NC, 22 GPIO8, 23 GPIO9, 24 GPIO18, SDIO_CMD, FSPICS2, 25 GPIO19, SDIO_CLK, FSPICS3, 26 GPIO20, SDIO_DATA0, FSPICS4, 27 GPIO21, SDIO_DATA1, FSPICS5, 28 GPIO22, SDIO_DATA2, 29 GPIO23, SDIO_DATA3, 30 U0RXD, GPIO17, FSPICS1, 31 U0TXD, GPIO16, FSPICS0, 32 NC, 33 NC, 34 NC, 35 NC, 36 GND_5, 37 GND_6, 38 GND_7, 39 GND_8, 40 GND_9, 41 GND_10, 42 GND_11, 43 GND_12, 44 GND_13, 45 GND_14, 46 GND_15, 47 GND_16, 48 GND_17, 49 GND_18, 50 GND_19, 51 GND_20, 52 GND_21, 53 GND_22, 54 GND_23, 55 GND_24, 56 GND_25, 57 GND_26, 58 GND_27, 59 GND_28, 60 GND_29, 61 GND_30

## ESP32-C6-WROOM-1U-N8
designator *
ESP32-C6-WROOM-1U Is A ESP32-C6; Manufacturer: Espressif Systems; Supplier: DigiKey; Supplier Part Number: 1965-ESP32-C6-WROOM-1U-N8CT-ND; Manufacturer Part Number: ESP32-C6-WROOM-1U-N8; Category: RF Transceiver Modules and Modems; Stock: 2146; Pricing: 1=5.43, 10=4.698, 25=4.444, 100=4.0954, 250=3.88644, 650=3.15002 (USD); ComponentLink1URL: https://datasheet.octopart.com:443/ESP32-C6-WROOM-1U-N8-Espressif-Systems-datasheet-188867345.pdf?src-supplier=TME; ComponentLink1Description: https://datasheet.octopart.com:443/ESP32-C6-WROOM-1U-N8-Espressif-Systems-datasheet-188867345.pdf?src-supplier=TME; ComponentLink2URL: https://datasheet.octopart.com:443/ESP32-C6-WROOM-1U-N8-Espressif-Systems-datasheet-188867343.pdf?src-supplier=TME; ComponentLink2Description: https://datasheet.octopart.com:443/ESP32-C6-WROOM-1U-N8-Espressif-Systems-datasheet-188867343.pdf?src-supplier=TME
pins: 1 GND_1, 2 3V3, 3 EN, 4 MTMS, GPIO4, LP_UART_RXD, ADC1_CH4, FSPIHD, 5 MTDI, GPIO5, LP_UART_TXD, ADC1_CH5, FSPIWP, 6 MTCK, GPIO6, LP_I2C_SDA, ADC1_CH6, FSPICLK, 7 MTDO, GPIO7, LP_I2C_SCL, FSPID, 8 GPIO0, XTAL_32K_P, LP_UART_DTRN, ADC1_CH0, 9 GPIO1, XTAL_32K_N, LP_UART_DSRN, ADC1_CH1, 10 GPIO8, 11 GPIO10, 12 GPIO11, 13 GPIO12, USB_D-, 14 GPIO13, USB_D+, 15 GPIO9, 16 GPIO18, SDIO_CMD, FSPICS2, 17 GPIO19, SDIO_CLK, FSPICS3, 18 GPIO20, SDIO_DATA0, FSPICS4, 19 GPIO21, SDIO_DATA1, FSPICS5, 20 GPIO22, SDIO_DATA2, 21 GPIO23, SDIO_DATA3, 22 NC, 23 GPIO15, 24 U0RXD, GPIO17, FSPICS1, 25 U0TXD, GPIO16, FSPICS0, 26 GPIO3, LP_GPIO3, LP_UART_CTSN, ADC1_CH3, 27 GPIO2, LP_GPIO2, LP_UART_RTSN, ADC1_CH2, FSPIQ, 28 GND_2, 29 GND_3, 30 GND_4, 31 GND_5, 32 GND_6, 33 GND_7, 34 GND_8, 35 GND_9, 36 GND_10, 37 GND_11

## Fuse_Holder
designator J?, comment Fuse Holder
pins: 1, 2

## lora
designator *
pins: 1 VIN, 2 GND "Ground", 3 EN "Enable (active high)", 4 G0 "VIN", 5 SCK "VIN", 6 MISO "Reset", 7 MOSI, 8 CS "MOSI", 9 RST, 10 G5, 11 G4, 12 G3, 13 G2, 14 G1

## LPS22HB
designator *  Reference: U
MEMS nano pressure sensor, 260-1260 hPa, absolute digital output baromeeter, 24 bit, SPI, I2C, 0.0075 hPa noise rms, ST_HLGA-10L; ki_keywords: mems absolute baromeeter spi i2c pressure; ki_fp_filters: ST?HLGA*2x2mm*P0.5mm*LayoutBorder3x2y*; Footprint: Package_LGA:ST_HLGA-10_2x2mm_P0.5mm_LayoutBorder3x2y; Datasheet: https://www.st.com/resource/en/datasheet/lps22hb.pdf; Description_: MEMS nano pressure sensor, 260-1260 hPa, absolute digital output baromeeter, 24 bit, SPI, I2C, 0.0075 hPa noise rms, ST_HLGA-10L; Value: LPS22HB
pins: 1 Vdd_IO, 2 SCL, 3 RES, 4 SDA, 5 SA0, 6 ~{{CS}}, 7 INT_DRDY, 8 GND, 9 GND hidden, 10 VDD

## LPS22HH
designator *  Reference: U
MEMS nano pressure sensor, 260-1260 hPa, absolute digital output baromeeter, 24 bit, SPI, I2C, I3C, 0.65 Pa noise rms, ST_HLGA-10L; ki_keywords: mems absolute baromeeter spi i2c i3c pressure; ki_fp_filters: ST?HLGA*2x2mm*P0.5mm*LayoutBorder3x2y*; Footprint: Package_LGA:ST_HLGA-10_2x2mm_P0.5mm_LayoutBorder3x2y; Datasheet: https://www.st.com/resource/en/datasheet/lps22hh.pdf; Description_: MEMS nano pressure sensor, 260-1260 hPa, absolute digital output baromeeter, 24 bit, SPI, I2C, I3C, 0.65 Pa noise rms, ST_HLGA-10L; Value: LPS22HH
pins: 1 Vdd_IO, 2 SCL, 3 RES, 4 SDA, 5 SA0, 6 ~{{CS}}, 7 INT_DRDY, 8 GND, 9 GND hidden, 10 VDD

## LPS25HB
designator *  Reference: U
MEMS nano pressure sensor, 260-1260 hPa, absolute digital output baromeeter, 24 bit, SPI, I2C, 0.01 hPa noise rms, ST_HLGA-10L; ki_keywords: mems absolute baromeeter spi i2c pressure; ki_fp_filters: ST?HLGA*2.5x2.5mm*P0.6mm*LayoutBorder3x2y*; Footprint: Package_LGA:ST_HLGA-10_2.5x2.5mm_P0.6mm_LayoutBorder3x2y; Datasheet: https://www.st.com/resource/en/datasheet/lps25hb.pdf; Description_: MEMS nano pressure sensor, 260-1260 hPa, absolute digital output baromeeter, 24 bit, SPI, I2C, 0.01 hPa noise rms, ST_HLGA-10L; Value: LPS25HB
pins: 1 Vdd_IO, 2 SCL, 3 RES, 4 SDA, 5 SA0, 6 ~{{CS}}, 7 INT_DRDY, 8 GND, 9 GND hidden, 10 VDD

## MPL115A1
designator *  Reference: U
SPI Digital Barometer; ki_keywords: spi barometer thermometer mems; ki_fp_filters: NXP*LGA*3x5mm*P1.25mm*H1.2mm*; Footprint: Package_LGA:NXP_LGA-8_3x5mm_P1.25mm_H1.2mm; Datasheet: https://www.nxp.com/docs/en/data-sheet/MPL115A1.pdf; Description_: SPI Digital Barometer; Value: MPL115A1
pins: 1 VDD, 2 CAP, 3 GND, 4 ~{{SHDN}}, 5 ~{{CS}}, 6 DOUT, 7 DIN, 8 SCLK

## MPL3115A2
designator *  Reference: U
I2C precision pressure sensor with altimetry, LGA-8; ki_keywords: pressure sensor altimetry; ki_fp_filters: NXP*LGA*3x5mm*P1.25mm*H1.1mm*; Footprint: Package_LGA:NXP_LGA-8_3x5mm_P1.25mm_H1.1mm; Datasheet: https://www.nxp.com/docs/en/data-sheet/MPL3115A2.pdf; Description_: I2C precision pressure sensor with altimetry, LGA-8; Value: MPL3115A2
pins: 1 VDD, 2 CAP, 3 GND, 4 VDDIO, 5 INT2, 6 INT1, 7 SDL, 8 SCL

## MPXA6115A
designator *  Reference: U
Absolute pressure sensor, 15 to 115kPa, analog output, integrated signal conditioning, temperature compensated, SO package; Datasheet: https://www.nxp.com/docs/en/data-sheet/MPXA6115A.pdf; Description_: Absolute pressure sensor, 15 to 115kPa, analog output, integrated signal conditioning, temperature compensated, SO package; ki_keywords: absolute pressure sensor; Value: MPXA6115A
pins: 1 NC hidden, 2 Vcc, 3 GND, 4 Vout, 5 NC hidden, 6 NC hidden, 7 NC hidden, 8 NC hidden

## MPXAZ6115A
designator *  Reference: U
Absolute pressure sensor, 15 to 115kPa, analog output, integrated signal conditioning, temperature compensated, media resistant gel, SO package; Datasheet: https://www.nxp.com/docs/en/data-sheet/MPXA6115A.pdf; Description_: Absolute pressure sensor, 15 to 115kPa, analog output, integrated signal conditioning, temperature compensated, media resistant gel, SO package; ki_keywords: absolute pressure sensor; Value: MPXAZ6115A
pins: 1 NC hidden, 2 Vcc, 3 GND, 4 Vout, 5 NC hidden, 6 NC hidden, 7 NC hidden, 8 NC hidden

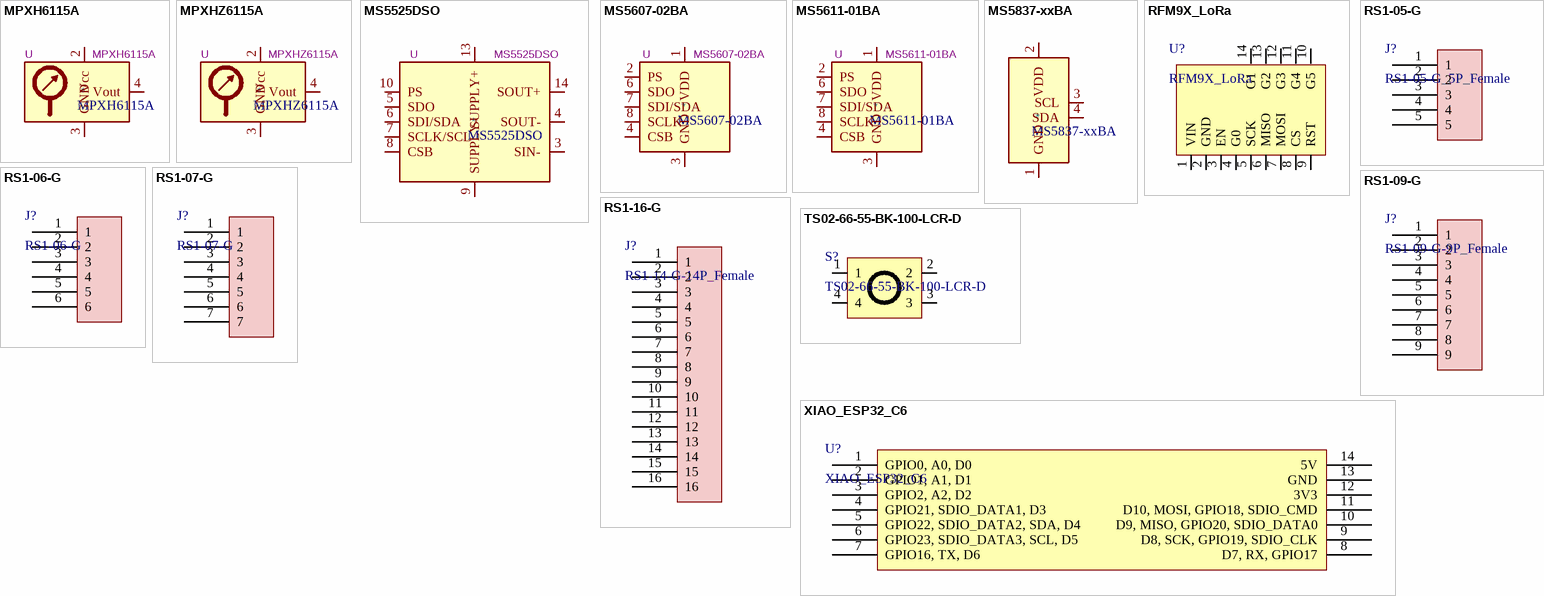
[diagram p1: symbols MPXH6115A to XIAO_ESP32_C6]

## MPXH6115A
designator *  Reference: U
Absolute pressure sensor, 15 to 115kPa, analog output, integrated signal conditioning, temperature compensated, SSO package; Datasheet: https://www.nxp.com/docs/en/data-sheet/MPXA6115A.pdf; Description_: Absolute pressure sensor, 15 to 115kPa, analog output, integrated signal conditioning, temperature compensated, SSO package; ki_keywords: absolute pressure sensor; Value: MPXH6115A
pins: 1 NC hidden, 2 Vcc, 3 GND, 4 Vout, 5 NC hidden, 6 NC hidden, 7 NC hidden, 8 NC hidden

## MPXHZ6115A
designator *  Reference: U
Absolute pressure sensor, 15 to 115kPa, analog output, integrated signal conditioning, temperature compensated, media resistant gel, SSO package; Datasheet: https://www.nxp.com/docs/en/data-sheet/MPXA6115A.pdf; Description_: Absolute pressure sensor, 15 to 115kPa, analog output, integrated signal conditioning, temperature compensated, media resistant gel, SSO package; ki_keywords: absolute pressure sensor; Value: MPXHZ6115A
pins: 1 NC hidden, 2 Vcc, 3 GND, 4 Vout, 5 NC hidden, 6 NC hidden, 7 NC hidden, 8 NC hidden

## MS5525DSO
designator *  Reference: U
Integrated Digital Pressure Sensor; ki_keywords: 24bit low-power I2C SPI; ki_fp_filters: TE?MS5525DSO*DB* TE?MS5525DSO*SB* TE?MS5525DSO*ST* TE?MS5525DSO*DH* TE?MS5525DSO*FT* TE?MS5525DSO*FB*; Datasheet: https://www.te.com/commerce/DocumentDelivery/DDEController?Action=srchrtrv&DocNm=MS5525DSO&DocType=DS&DocLang=English; Description_: Integrated Digital Pressure Sensor; Value: MS5525DSO
pins: 1 SIN- hidden, 2 SOUT- hidden, 3 SIN-, 4 SOUT-, 5 SDO, 6 SDI/SDA, 7 SCLK/SCL, 8 CSB, 9 SUPPLY-, 10 PS, 11 SUPPLY+ hidden, 12 SOUT+ hidden, 13 SUPPLY+, 14 SOUT+

## MS5607-02BA
designator *  Reference: U
Barometric pressure sensor, 20cm resolution, 10 to 1200 mbar, I2C and SPI interface up to 20MHz, LGA-8; ki_keywords: pressure SPI I2C; ki_fp_filters: LGA*3x5mm*P1.25mm*; Footprint: Package_LGA:LGA-8_3x5mm_P1.25mm; Datasheet: https://www.te.com/commerce/DocumentDelivery/DDEController?Action=showdoc&DocId=Data+Sheet%7FMS5607-02BA03%7FB2%7Fpdf%7FEnglish%7FENG_DS_MS5607-02BA03_B2.pdf%7FCAT-BLPS0035; Description_: Barometric pressure sensor, 20cm resolution, 10 to 1200 mbar, I2C and SPI interface up to 20MHz, LGA-8; Value: MS5607-02BA
pins: 1 VDD, 2 PS, 3 GND, 4 CSB, 5 CSB hidden, 6 SDO, 7 SDI/SDA, 8 SCLK

## MS5611-01BA
designator *  Reference: U
Barometric pressure sensor, 10cm resolution, 10 to 1200 mbar, I2C and SPI interface up to 20MHz, LGA-8; ki_keywords: pressure SPI I2C; ki_fp_filters: LGA*3x5mm*P1.25mm*; Footprint: Package_LGA:LGA-8_3x5mm_P1.25mm; Datasheet: https://www.te.com/commerce/DocumentDelivery/DDEController?Action=srchrtrv&DocNm=MS5611-01BA03&DocType=Data+Sheet&DocLang=English; Description_: Barometric pressure sensor, 10cm resolution, 10 to 1200 mbar, I2C and SPI interface up to 20MHz, LGA-8; Value: MS5611-01BA
pins: 1 VDD, 2 PS, 3 GND, 4 CSB, 5 CSB hidden, 6 SDO, 7 SDI/SDA, 8 SCLK

## MS5837-xxBA
designator *
Ultra-small, gel-filled, pressure sensor with stainless steel cap; ki_fp_filters: TE_MS5837*BA*; Footprint: Sensor_Pressure:TE_MS5837-xxBA; Datasheet: https://www.te.com/commerce/DocumentDelivery/DDEController?Action=showdoc&DocId=Data+Sheet%7FMS5837-30BA%7FB1%7Fpdf%7FEnglish%7FENG_DS_MS5837-30BA_B1.pdf%7FCAT-BLPS0017; Description_: Ultra-small, gel-filled, pressure sensor with stainless steel cap; ki_keywords: pressure sensor
pins: 1 GND, 2 VDD, 3 SCL, 4 SDA

## RFM9X_LoRa
designator U?
pins: 1 VIN, 2 GND "Ground", 3 EN "Enable (active high)", 4 G0 "VIN", 5 SCK "VIN", 6 MISO "Reset", 7 MOSI, 8 CS "MOSI", 9 RST, 10 G5, 11 G4, 12 G3, 13 G2, 14 G1